# EAGLE library part M50-3000545 (library Tilmann)
2x5way DIL PCT Vert Socket HARWIN 1.27mm Pitch 10 Way 2 Row Straight PCB Socket, Through Hole, Solder Termination Source: Datasheet <https://cdn.harwin.com/pdfs/M50-300.pdf> Stock: farnell <https://uk.farnell.com/harwin/m50-3000545/socket-vertical-2row-10way/dp/1022299>
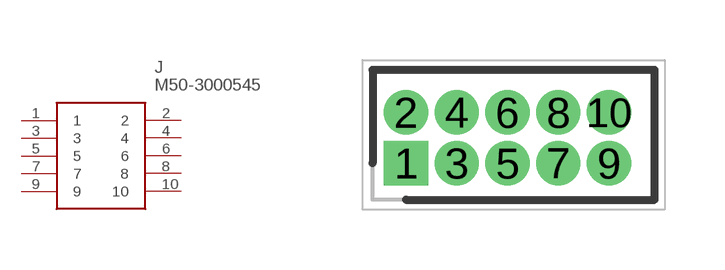
[diagram p9: symbol with the pads of RHDR10W40P127X127_2X5_675X310X; footprint RHDR10W40P127X127_2X5_675X310X]

Designator prefix J

## M50-3000545 (DESCRIPTION: 2x5way DIL PCT Vert Socket HARWIN 1.27mm Pitch 10 Way 2 Row Straight PCB Socket, Through Hole, Solder Termination; HEIGHT: 4.55mm; MANUFACTURER_NAME: Harwin; MANUFACTURER_PART_NUMBER: M50-3000545; MOUSER_PART_NUMBER: 855-M50-3000545; MOUSER_PRICE-STOCK: https://www.mouser.co.uk/ProductDetail/Harwin/M50-3000545?qs=9fQaSFfsqsxg0dce7tzo%2FQ%3D%3D)  [RHDR10W40P127X127_2X5_675X310X]
1  1
2  2
3  3
4  4
5  5
6  6
7  7
8  8
9  9
10  10

## Footprint RHDR10W40P127X127_2X5_675X310X (pad centres in mm)
M50-3000545
drill 0.6 pad 1.016 square: 1 0,0
drill 0.6 pad 1.016: 2 0,1.27; 3 1.27,0; 4 1.27,1.27; 5 2.54,0; 6 2.54,1.27; 7 3.81,0; 8 3.81,1.27; 9 5.08,0; 10 5.08,1.27